# Altium footprint library SOP.PcbLib: 8 footprints
Each footprint in its own frame and in the unit in brackets; x right, y up, seen from the top. Pads: shape width x height; smd on the part's side, far side on the other; paste and mask are expansions set on the pad; w line width, h text height; cw(c..) or ccw(c..) is an arc to the next point about the centre after c.
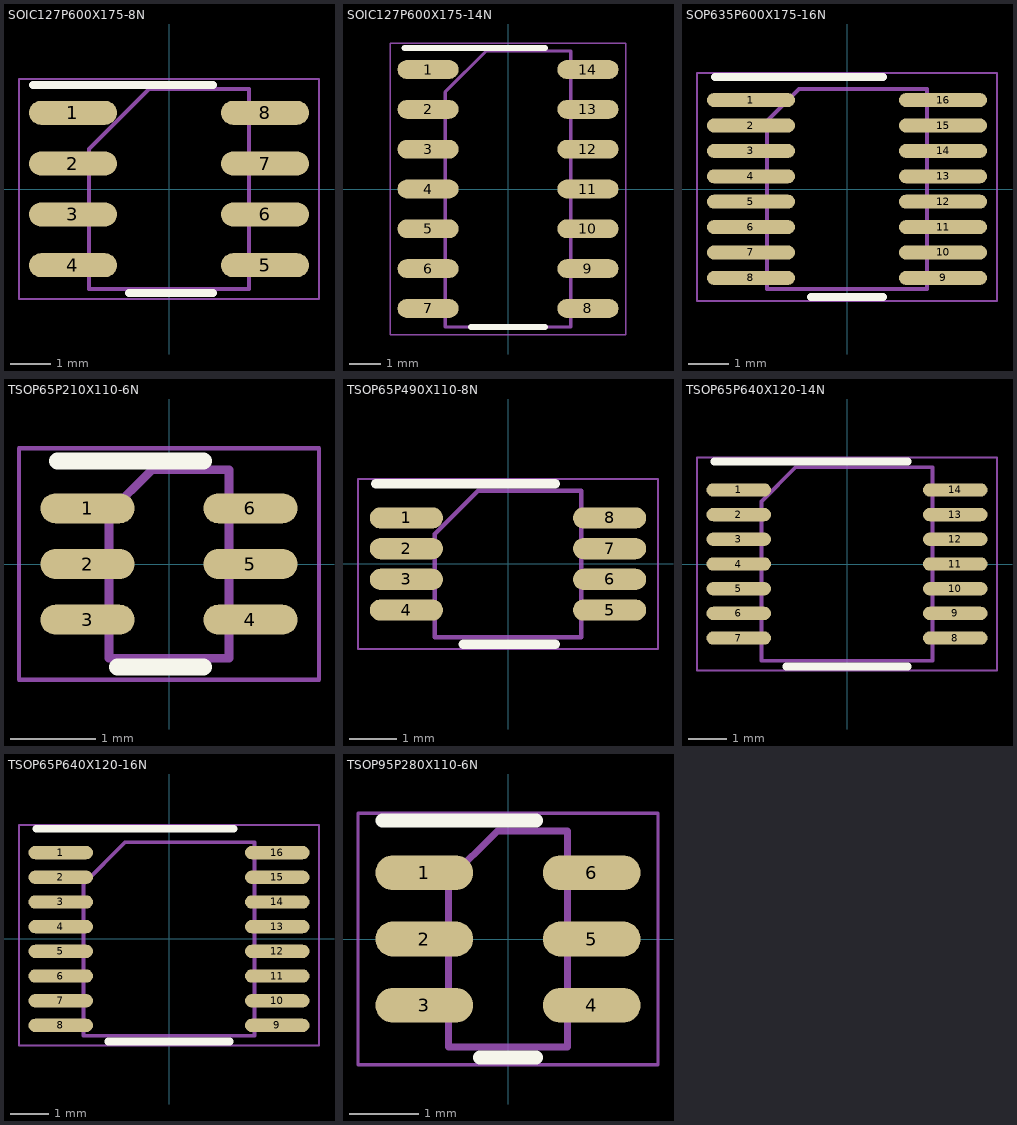
[diagram p0: the footprints below, top view; thin cyan lines are the x and y axes]

## SOIC127P600X175-8N [mm] "SOIC, 8-Leads, Body 4.90x3.90mm, Pitch 1.27mm, IPC Medium Density"
height 1.75
pads (8):
  oval 2.2x0.6 smd: 1(-2.4,1.905) 2(-2.4,0.635) 3(-2.4,-0.635) 4(-2.4,-1.905) 5(2.4,-1.905) 6(2.4,-0.635) 7(2.4,0.635) 8(2.4,1.905)
Top Overlay:
  lines w0.2: -3.4,2.6 1.1,2.6 ; -1,-2.6 1.1,-2.6
Assembly:
  lines w0.1: -2,-2.5 2,-2.5 2,2.5 -0.5,2.5 -2,1 -2,-2.5
Courtyard:
  lines w0.05: -3.75,-2.75 3.75,-2.75 3.75,2.75 -3.75,2.75 -3.75,-2.75
3D body: height 1.75, standoff 0.1, extent -2,-2.5 2,2.5

## SOIC127P600X175-14N [mm] "SOIC, 14-Leads, Body 8.65x3.90mm, Pitch 1.27mm, IPC Medium Density"
height 1.75
pads (14):
  oval 1.95x0.6 smd: 1(-2.55,3.81) 2(-2.55,2.54) 3(-2.55,1.27) 4(-2.55,0) 5(-2.55,-1.27) 6(-2.55,-2.54) 7(-2.55,-3.81) 8(2.55,-3.81) 9(2.55,-2.54) 10(2.55,-1.27) 11(2.55,0) 12(2.55,1.27) 13(2.55,2.54) 14(2.55,3.81)
Top Overlay:
  lines w0.2: -3.3,4.5 1.175,4.5 ; -1.175,-4.4 1.175,-4.4
Assembly:
  lines w0.1: -2,-4.4 -2,3.1 -0.7,4.4 2,4.4 2,-4.4 -2,-4.4
Courtyard:
  lines w0.05: -3.75,-4.65 -3.75,4.65 3.75,4.65 3.75,-4.65 -3.75,-4.65
3D body: height 1.75, standoff 0.1, extent -2,-4.4 2,4.4

## SOP635P600X175-16N [mm] "SOP, 16-Leads, Body 4.90x3.90mm, Pitch 0.64mm, IPC Medium Density"
height 1.76
pads (16):
  oval 2.2x0.35 smd: 1(-2.4,2.222) 2(-2.4,1.587) 3(-2.4,0.953) 4(-2.4,0.318) 5(-2.4,-0.318) 6(-2.4,-0.953) 7(-2.4,-1.587) 8(-2.4,-2.222) 9(2.4,-2.222) 10(2.4,-1.587) 11(2.4,-0.953) 12(2.4,-0.318) 13(2.4,0.318) 14(2.4,0.953) 15(2.4,1.587) 16(2.4,2.222)
Top Overlay:
  lines w0.2: -3.3,2.8 0.9,2.8 ; -0.9,-2.7 0.9,-2.7
Assembly:
  lines w0.1: -2,-2.5 -2,1.7 -1.2,2.5 2,2.5 2,-2.5 -2,-2.5
Courtyard:
  lines w0.05: -3.75,-2.8 -3.75,2.9 3.75,2.9 3.75,-2.8 -3.75,-2.8
3D body: height 1.76, standoff 0.1, extent -2,-2.5 2,2.5

## TSOP65P210X110-6N [mm] "TSOP, 6-Leads, Body 2.00x1.25mm, Pitch 0.65mm, IPC Medium Density (SOT-363, SC-88)"
height 1.1
pads (6):
  oval 1.1x0.35 smd: 1(-0.95,0.65) 2(-0.95,0) 3(-0.95,-0.65) 4(0.95,-0.65) 5(0.95,0) 6(0.95,0.65)
Top Overlay:
  lines w0.2: -1.3,1.2 0.4,1.2 ; -0.6,-1.2 0.4,-1.2
Assembly:
  lines w0.1: -0.7,-1.1 0.7,-1.1 0.7,1.1 -0.2,1.1 -0.7,0.6 -0.7,-1.1
Courtyard:
  lines w0.05: -1.75,-1.35 1.75,-1.35 1.75,1.35 -1.75,1.35 -1.75,-1.35
3D body: height 1.1, standoff 0.1, extent -0.7,-1.1 0.7,1.1

## TSOP65P490X110-8N [mm] "TSOP, 8-Leads, Body 3.00x3.00mm, Pitch 0.65mm, IPC Medium Density (8-TSSOP, 8-MSOP, 8-uMAX)"
height 1.1
pads (8):
  oval 1.55x0.45 smd: 1(-2.15,0.975) 2(-2.15,0.325) 3(-2.15,-0.325) 4(-2.15,-0.975) 5(2.15,-0.975) 6(2.15,-0.325) 7(2.15,0.325) 8(2.15,0.975)
Top Overlay:
  lines w0.2: -2.8,1.7 1,1.7 ; -0.95,-1.7 1,-1.7
Assembly:
  lines w0.1: -1.55,-1.55 -1.55,0.635 -0.635,1.55 1.55,1.55 1.55,-1.55 -1.55,-1.55
Courtyard:
  lines w0.05: -3.175,-1.8 3.175,-1.8 3.175,1.8 -3.175,1.8 -3.175,-1.8
3D body: height 1.1, standoff 0.05, extent -1.55,-1.55 1.55,1.55

## TSOP65P640X120-14N [mm] "TSOP, 14-Leads, Body 5.00x4.39mm, Pitch 0.65mm, IPC Medium Density"
height 1.2
pads (14):
  oval 1.7x0.35 smd: 1(-2.85,1.95) 2(-2.85,1.3) 3(-2.85,0.65) 4(-2.85,0) 5(-2.85,-0.65) 6(-2.85,-1.3) 7(-2.85,-1.95) 8(2.85,-1.95) 9(2.85,-1.3) 10(2.85,-0.65) 11(2.85,0) 12(2.85,0.65) 13(2.85,1.3) 14(2.85,1.95)
Top Overlay:
  lines w0.2: -3.5,2.7 1.6,2.7 ; -1.6,-2.7 1.6,-2.7
Assembly:
  lines w0.1: -2.25,-2.55 -2.25,1.65 -1.35,2.55 2.25,2.55 2.25,-2.55 -2.25,-2.55
Courtyard:
  lines w0.05: -3.95,-2.8 -3.95,2.8 3.95,2.8 3.95,-2.8 -3.95,-2.8
3D body: height 1.2, standoff 0.05, extent -2.25,-2.55 2.25,2.55

## TSOP65P640X120-16N [mm] "TSOP, 16-Leads, Body 5.00x4.39mm, Pitch 0.65mm, IPC Medium Density"
height 1.2
pads (16):
  oval 1.7x0.35 smd: 1(-2.85,2.275) 2(-2.85,1.625) 3(-2.85,0.975) 4(-2.85,0.325) 5(-2.85,-0.325) 6(-2.85,-0.975) 7(-2.85,-1.625) 8(-2.85,-2.275) 9(2.85,-2.275) 10(2.85,-1.625) 11(2.85,-0.975) 12(2.85,-0.325) 13(2.85,0.325) 14(2.85,0.975) 15(2.85,1.625) 16(2.85,2.275)
Top Overlay:
  lines w0.2: -3.5,2.9 1.7,2.9 ; -1.6,-2.7 1.6,-2.7
Assembly:
  lines w0.1: -2.25,-2.55 -2.25,1.45 -1.15,2.55 2.25,2.55 2.25,-2.55 -2.25,-2.55
Courtyard:
  lines w0.05: -3.95,-2.8 3.95,-2.8 3.95,3 -3.95,3 -3.95,-2.8
3D body: height 1.2, standoff 0.05, extent -2.25,-2.55 2.25,2.55

## TSOP95P280X110-6N [mm] "TSOP, 6-Leads, Body 2.90x1.50mm, Pitch 0.95mm, IPC Medium Density (SOT-457, SC-74)"
height 1.1
pads (6):
  oval 1.4x0.5 smd: 1(-1.2,0.95) 2(-1.2,0) 3(-1.2,-0.95) 4(1.2,-0.95) 5(1.2,0) 6(1.2,0.95)
Top Overlay:
  lines w0.2: -1.8,1.7 0.4,1.7 ; -0.4,-1.7 0.4,-1.7
Assembly:
  lines w0.1: -0.85,-1.55 -0.85,0.85 -0.15,1.55 0.85,1.55 0.85,-1.55 -0.85,-1.55
Courtyard:
  lines w0.05: -2.15,-1.8 -2.15,1.8 2.15,1.8 2.15,-1.8 -2.15,-1.8
3D body: height 1.1, standoff 0.1, extent -0.85,-1.55 0.85,1.55